# Altium footprint library Connector_USB.PcbLib: 53 footprints (part 1 of 4)
Each footprint in its own frame and in the unit in brackets; x right, y up, seen from the top. Pads: shape width x height; smd on the part's side, far side on the other; paste and mask are expansions set on the pad; w line width, h text height; cw(c..) or ccw(c..) is an arc to the next point about the centre after c.
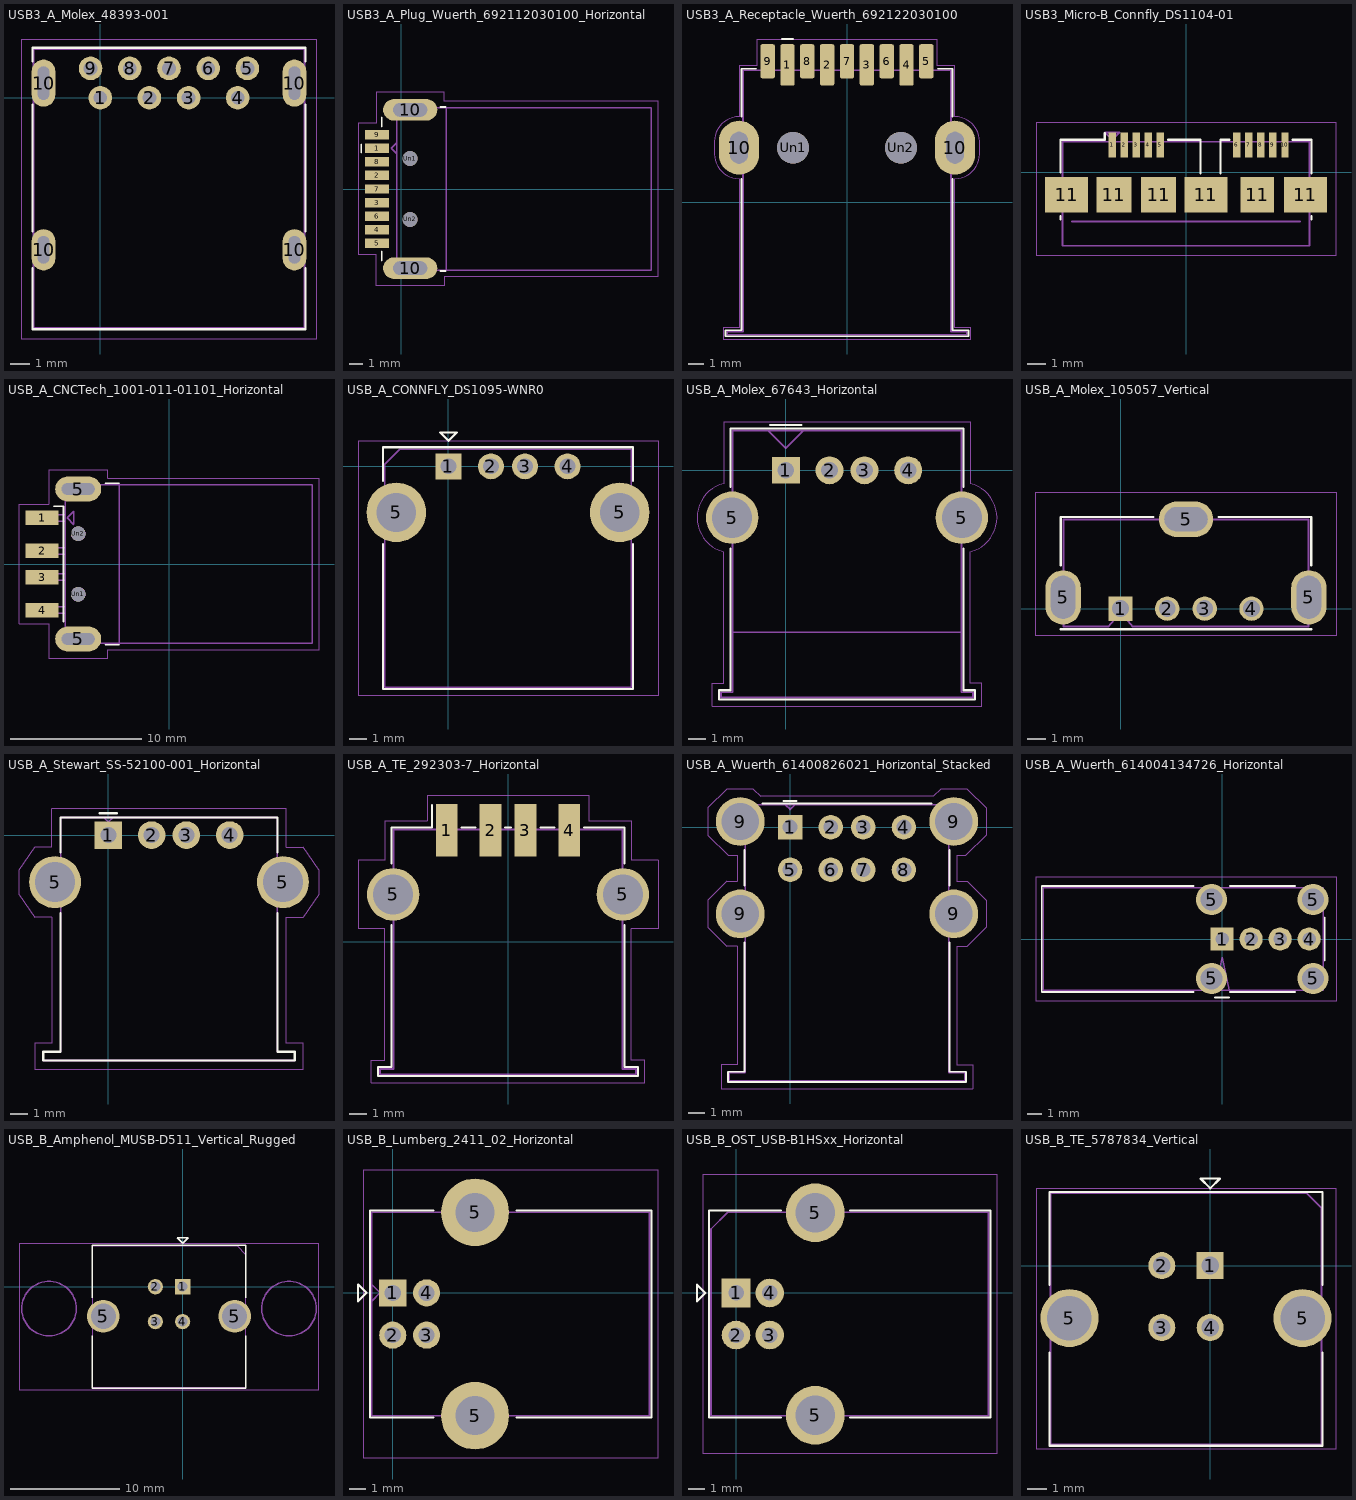
[diagram p0: the footprints below, top view; thin cyan lines are the x and y axes]

## USB3_A_Molex_48393-001 [mm]
pads (13):
  round 1.2 hole 0.7: 1(0,0) 2(2.5,0) 3(4.5,0) 4(7,0) 5(7.5,1.5) 6(5.5,1.5) 7(3.5,1.5) 8(1.5,1.5) 9(-0.5,1.5)
  rrect100% 1.2x2.1 hole 1.4 slot 0.6 at 0 deg: 10(-2.9,-7.75) 10(9.9,-7.75)
  rrect100% 1.2x2.4 hole 1.7 slot 0.6 at 0 deg: 10(-2.9,0.75) 10(9.9,0.75)
F.SilkS:
  lines w0.12: -3.46,-8.7 -3.46,-11.81 10.46,-11.81 10.46,-8.7 ; -3.46,-6.8 -3.46,-0.35 ; -3.46,1.85 -3.46,2.56 10.46,2.56 10.46,1.85 ; 10.46,-6.8 10.46,-0.35
F.CrtYd:
  lines w0.05: -4,-12.3 11,-12.3 11,3 -4,3 -4,-12.3
F.Fab:
  lines w0.1: -3.4,-11.75 10.4,-11.75 10.4,2.5 -3.4,2.5 -3.4,-11.75
  text "'.Designator'" at -0.547,-5.84 h1

## USB3_A_Plug_Wuerth_692112030100_Horizontal [mm]
pads (13):
  rect 1.8x0.7 smd: 1(-1.775,3) 2(-1.775,1) 3(-1.775,-1) 4(-1.775,-3) 5(-1.775,-4) 6(-1.775,-2) 7(-1.775,0) 8(-1.775,2) 9(-1.775,4)
  rrect100% 4x1.6 hole 2.5 slot 1 at 90 deg: 10(0.675,-5.85) 10(0.675,5.85)
  round 1.1 hole 1.1: Un1(0.675,2.25) Un2(0.675,-2.25)
F.SilkS:
  lines w0.12: -2.935,2.7 -2.935,3.3 ; -1.425,-5.29 -1.425,-4.61 ; -1.425,4.61 -1.425,5.29 ; 2.915,-6.06 3.315,-6.06 ; 2.915,6.06 3.315,6.06
Dwgs.User:
  lines w0.1: 3.325,-6 3.325,6
  text "PCB Edge" at 3.165,-2.068 h0.6
F.CrtYd:
  lines w0.05: -3.18,-4.85 -3.18,4.85 -1.83,4.85 -1.83,7.15 3.18,7.15 3.18,6.5 18.98,6.5 18.98,-6.5 3.18,-6.5 3.18,-7.15 -1.83,-7.15 -1.83,-4.85 -3.18,-4.85
F.Fab:
  lines w0.1: -0.325,2.6 -0.725,3 -0.325,3.4 ; -0.325,-6 -0.325,6 18.475,6 18.475,-6 -0.325,-6
  text "'.Designator'" at 5.028,-0.84 h1

## USB3_A_Receptacle_Wuerth_692122030100 [mm]
pads (13):
  rrect25% 0.9x2.6 smd: 1(-3.75,8.67) 2(-1.25,8.67) 3(1.25,8.67) 4(3.75,8.67)
  rrect25% 0.9x2.15 smd: 5(5,8.895) 6(2.5,8.895) 7(0,8.895) 8(-2.5,8.895) 9(-5,8.895)
  rrect100% 2.52x3.4 hole 2 slot 1.12 at 0 deg: 10(-6.8,3.45) 10(6.8,3.45)
  round 2 hole 2: Un1(-3.4,3.45) Un2(3.4,3.45)
F.SilkS:
  lines w0.12: -6.65,1.475 -6.65,-8.05 -7.65,-8.05 -7.65,-8.425 7.65,-8.425 7.65,-8.05 6.65,-8.05 6.65,1.475 ; -6.65,5.425 -6.65,8.425 -5.725,8.425 ; -4.1,10.3 -3.4,10.3 ; 5.725,8.425 6.65,8.425 6.65,5.425
F.CrtYd:
  lines w0.05: -8.35,3.05 -8.35,3.85 cw(c-6.8,3.85) -6.8,5.4 -6.8,8.6 -5.7,8.6 -5.7,10.25 5.7,10.25 5.7,8.6 6.8,8.6 6.8,5.4 cw(c6.8,3.85) 8.35,3.85 8.35,3.05 cw(c6.8,3.05) 6.8,1.5 6.8,-7.9 7.8,-7.9 7.8,-8.6 -7.8,-8.6 -7.8,-7.9 -6.8,-7.9 -6.8,1.5 cw(c-6.8,3.05) -8.35,3.05
F.Fab:
  lines w0.1: -4.15,8.33 -3.75,8.73 -3.35,8.33 ; -7.55,-8.33 -7.55,-8.15 -6.55,-8.15 -6.55,8.33 6.55,8.33 6.55,-8.15 7.55,-8.15 7.55,-8.33 6.55,-8.33 -6.55,-8.33 -7.55,-8.33
  text "'.Designator'" at -4.047,2.06 h1

## USB3_Micro-B_Connfly_DS1104-01 [mm]
pads (16):
  rect 0.4x1.35 smd: 1(-3.975,1.475) 2(-3.325,1.475) 3(-2.675,1.475) 4(-2.025,1.475) 5(-1.375,1.475) 6(2.725,1.475) 7(3.375,1.475) 8(4.025,1.475) 9(4.675,1.475) 10(5.325,1.475)
  rect 2.3x1.9 smd: 11(-6.425,-1.2) 11(1.075,-1.2) 11(6.425,-1.2)
  rect 1.9x1.9 smd: 11(-3.875,-1.2) 11(-1.475,-1.2)
  rect 1.8x1.9 smd: 11(3.825,-1.2)
F.SilkS:
  lines w0.12: -6.75,-2.525 -6.75,-2.35 ; -6.75,0 -6.75,1.75 -4.375,1.75 -4.375,2.1 ; -0.975,1.75 0.775,1.75 0.775,-0.05 ; 1.855,-0.05 1.855,1.75 2.325,1.75 ; 5.725,1.75 6.75,1.75 6.75,-0.05 ; 6.75,-2.525 6.75,-2.35
Dwgs.User:
  text "PCB Edge" at -1.359,-2.957 h0.4
F.CrtYd:
  lines w0.05: -8.07,-4.45 -8.07,2.66 8.07,2.66 8.07,-4.45 -8.07,-4.45
F.Fab:
  lines w0.1: -6.125,-2.65 6.125,-2.65 ; -6.635,-3.95 -6.635,1.65 6.635,1.65 6.635,-3.95 -6.635,-3.95 ; -4.375,2.15 -3.975,1.75 -3.575,2.15 -4.375,2.15
  text "'.Designator'" at -4.047,-0.381 h1

## USB_A_CNCTech_1001-011-01101_Horizontal [mm]
pads (8):
  rect 2.5x1.1 smd: 1(-9.65,3.5) 2(-9.65,1) 3(-9.65,-1) 4(-9.65,-3.5)
  rrect100% 3.5x1.9 hole 0.9 slot 2.5 at 0 deg: 5(-6.9,-5.7) 5(-6.9,5.7)
  round 1.1 hole 1.1: Un1(-6.9,-2.3) Un2(-6.9,2.3)
F.SilkS:
  lines w0.12: -8.775,4.4 -8.02,4.4 -8.02,-4.4 ; -4.85,-6.145 -3.8,-6.145 ; -4.85,6.145 -3.8,6.145
Dwgs.User:
  lines w0.1: -3.8,-6.025 -3.8,6.025
  text "PCB Edge" at -4.06,-2.018 h0.6
F.CrtYd:
  lines w0.05: -11.4,-4.55 -9.15,-4.55 -9.15,-7.15 -4.65,-7.15 -4.65,-6.52 11.4,-6.52 11.4,6.52 -4.65,6.52 -4.65,7.15 -9.15,7.15 -9.15,4.55 -11.4,4.55 -11.4,-4.55
F.Fab:
  circle w0.1: c-6.9,2.3 r0.5
  circle w0.1: c-6.9,-2.3 r0.5
  lines w0.1: -7.9,-3.75 -10.4,-3.75 -10.4,-3.25 -7.9,-3.25 ; -7.9,-1.25 -10.4,-1.25 -10.4,-0.75 -7.9,-0.75 ; -7.9,0.75 -10.4,0.75 -10.4,1.25 -7.9,1.25 ; -7.9,3.25 -10.4,3.25 -10.4,3.75 -7.9,3.75 ; -7.25,3 -7.75,3.5 -7.25,4 -7.25,3.05 ; -7.9,-6.025 10.9,-6.025 10.9,6.025 -7.9,6.025 -7.9,-6.025
  text "'.Designator'" at -5.16,-4.047 h1

## USB_A_CONNFLY_DS1095-WNR0 [mm]
pads (6):
  rect 1.524x1.524 hole 0.92: 1(0,0)
  round 1.524 hole 0.92: 2(2.5,0) 3(4.5,0) 4(7,0)
  round 3.5 hole 2.3: 5(-3.07,-2.71) 5(10.07,-2.71)
F.SilkS:
  lines w0.12: -3.86,-4.56 -3.86,-13.1 10.86,-13.1 10.86,-4.56 ; -3.86,-0.86 -3.86,1.12 10.86,1.12 10.86,-0.86 ; -0.5,2 0.5,2 0,1.5 -0.5,2
F.CrtYd:
  lines w0.05: -5.32,-13.49 -5.32,1.51 12.32,1.51 12.32,-13.49 -5.32,-13.49
F.Fab:
  lines w0.1: -3.75,-12.99 10.75,-12.99 10.75,1.01 -2.87,1.01 -3.75,0.13 -3.75,-12.99
  text "'.Designator'" at -0.547,-5.84 h1

## USB_A_Molex_67643_Horizontal [mm]
pads (6):
  rect 1.6x1.5 hole 0.95: 1(0,0)
  round 1.6 hole 0.95: 2(2.5,0) 3(4.5,0) 4(7,0)
  round 3 hole 2.3: 5(-3.07,-2.71) 5(10.07,-2.71)
F.SilkS:
  lines w0.12: -3.16,-4.47 -3.16,-12.58 -3.81,-12.58 -3.81,-13.1 10.81,-13.1 10.81,-12.58 10.16,-12.58 10.16,-4.47 ; -3.16,-0.95 -3.16,2.38 10.16,2.38 10.16,-0.95 ; -0.9,2.6 0.9,2.6
F.CrtYd:
  lines w0.05: -4.2,-13.49 -4.2,-12.19 -3.55,-12.19 -3.55,-4.66 cw(c-3.07,-2.71) -3.55,-0.76 -3.55,2.77 10.55,2.77 10.55,-0.76 cw(c10.07,-2.71) 10.55,-4.66 10.55,-12.19 11.2,-12.19 11.2,-13.49 -4.2,-13.49
F.Fab:
  lines w0.1: -3.05,-9.27 10.05,-9.27 ; -1,2.27 0,1.27 1,2.27 ; -3.7,-12.99 10.7,-12.99 10.7,-12.69 10.05,-12.69 10.05,2.27 -3.05,2.27 -3.05,-12.69 -3.7,-12.69 -3.7,-12.99
  text "'.Designator'" at -0.547,-4.54 h1

## USB_A_Molex_105057_Vertical [mm]
pads (7):
  rect 1.3x1.3 hole 0.9: 1(0,0)
  round 1.3 hole 0.9: 2(2.5,0) 3(4.5,0) 4(7,0)
  rrect100% 1.9x2.9 hole 2.3 slot 1.3 at 0 deg: 5(-3.07,0.6) 5(10.07,0.6)
  rrect100% 2.9x1.9 hole 2.3 slot 1.3 at 90 deg: 5(3.5,4.78)
F.SilkS:
  lines w0.12: -3.2,-1.1 10.2,-1.1 ; -3.2,2.3 -3.2,4.9 1.75,4.9 ; 5.25,4.9 10.2,4.9 10.2,2.3
F.CrtYd:
  lines w0.05: -4.52,-1.46 11.52,-1.46 11.52,6.23 -4.52,6.23 -4.52,-1.46
F.Fab:
  lines w0.1: -3.05,-0.96 -3.05,4.76 10.05,4.76 10.05,-0.96 0.65,-0.96 0,-0.2 -0.65,-0.96 -3.05,-0.96
  text "'.Designator'" at -0.597,1.31 h1

## USB_A_Stewart_SS-52100-001_Horizontal [mm]
pads (6):
  rect 1.6x1.6 hole 0.92: 1(0,0)
  round 1.6 hole 0.92: 2(2.5,0) 3(4.5,0) 4(7,0)
  round 3 hole 2.3: 5(-3.07,-2.71) 5(10.07,-2.71)
F.SilkS:
  lines w0.12: -2.75,-4.49 -2.75,-12.49 -3.75,-12.49 -3.75,-12.99 10.75,-12.99 10.75,-12.49 9.75,-12.49 9.75,-4.49 ; -2.75,-0.99 -2.75,1.01 9.75,1.01 9.75,-0.99 ; -0.5,1.26 0.5,1.26
F.CrtYd:
  lines w0.05: -5.15,-3.44 -4.25,-4.74 -3.25,-4.74 -3.25,-11.99 -4.25,-11.99 -4.25,-13.49 11.25,-13.49 11.25,-11.99 10.25,-11.99 10.25,-4.74 11.25,-4.74 12.15,-3.44 12.15,-1.99 11.25,-0.69 10.25,-0.69 10.25,1.51 -3.25,1.51 -3.25,-0.69 -4.25,-0.69 -5.15,-1.99 -5.15,-3.44
F.Fab:
  lines w0.1: -0.25,1.01 0,0.76 0.25,1.01 ; -3.75,-12.99 -3.75,-12.49 -2.75,-12.49 -2.75,1.01 9.75,1.01 9.75,-12.49 10.75,-12.49 10.75,-12.99 -3.75,-12.99
  text "'.Designator'" at -0.547,-6.83 h1

## USB_A_TE_292303-7_Horizontal [mm]
pads (6):
  rect 1.25x3 smd: 1(-3.5,6.38) 2(-1,6.38) 3(1,6.38) 4(3.5,6.38)
  round 3 hole 2.3: 5(-6.57,2.7) 5(6.57,2.7)
F.SilkS:
  lines w0.12: -6.66,0.94 -6.66,-7.17 -7.43,-7.17 -7.43,-7.69 7.43,-7.69 7.43,-7.17 6.66,-7.17 6.66,0.94 ; -6.66,4.46 -6.66,6.53 -4.35,6.53 -4.35,7.82 ; -2.67,6.52 -1.85,6.52 ; -0.17,6.52 0.17,6.52 ; 1.85,6.52 2.67,6.52 ; 4.35,6.53 6.66,6.53 6.66,4.46
F.CrtYd:
  lines w0.05: -8.58,0.75 -7.05,0.75 -7.05,-6.78 -7.82,-6.78 -7.82,-8.08 7.82,-8.08 7.82,-6.78 7.05,-6.78 7.05,0.75 8.58,0.75 8.58,4.65 7.05,4.65 7.05,6.92 4.63,6.92 4.63,8.38 -4.63,8.38 -4.63,6.92 -7.05,6.92 -7.05,4.65 -8.58,4.65 -8.58,0.75
F.Fab:
  lines w0.1: -3.8,6.42 -3.8,7.58 -3.2,7.58 -3.2,6.42 ; -1.3,6.42 -1.3,7.58 -0.7,7.58 -0.7,6.42 ; 0.7,6.42 0.7,7.58 1.3,7.58 1.3,6.42 ; 3.2,6.42 3.2,7.58 3.8,7.58 3.8,6.42 ; -7.32,-7.58 -7.32,-7.28 -6.55,-7.28 -6.55,6.42 6.55,6.42 6.55,-7.28 7.32,-7.28 7.32,-7.58 -7.32,-7.58
  text "'.Designator'" at -4.047,0.87 h1

## USB_A_Wuerth_61400826021_Horizontal_Stacked [mm]
pads (12):
  rect 1.5x1.5 hole 0.92: 1(0,0)
  round 1.5 hole 0.92: 2(2.5,0) 3(4.5,0) 4(7,0) 5(0,-2.62) 6(2.5,-2.62) 7(4.5,-2.62) 8(7,-2.62)
  round 3 hole 2.3: 9(-3.07,-5.33) 9(-3.07,0.35) 9(10.07,-5.33) 9(10.07,0.35)
F.SilkS:
  lines w0.12: -2.81,-7.08 -2.81,-15.05 -3.81,-15.05 -3.81,-15.67 10.81,-15.67 10.81,-15.05 9.81,-15.05 9.81,-7.08 ; -2.81,-3.58 -2.81,-1.4 ; -1.69,1.45 8.69,1.45 ; -0.4,1.6 0.4,1.6 ; 9.81,-3.58 9.81,-1.4
F.CrtYd:
  lines w0.05: -5.07,-6.17 -3.91,-7.33 -3.26,-7.33 -3.26,-14.61 -4.25,-14.61 -4.25,-16.11 11.25,-16.11 11.25,-14.61 10.26,-14.61 10.26,-7.33 10.91,-7.33 12.07,-6.17 12.07,-4.49 10.91,-3.33 10.26,-3.33 10.26,-1.74 10.82,-1.74 12.07,-0.49 12.07,1.19 10.91,2.35 9.26,2.35 8.8,1.89 -1.8,1.89 -2.26,2.35 -3.91,2.35 -5.07,1.19 -5.07,-0.49 -3.82,-1.74 -3.26,-1.74 -3.26,-3.33 -3.91,-3.33 -5.07,-4.49 -5.07,-6.17
F.Fab:
  lines w0.1: -3.75,-15.61 10.75,-15.61 10.75,-15.11 9.75,-15.11 9.75,1.39 -2.75,1.39 -2.75,-15.11 -3.75,-15.11 -3.75,-15.61
  lines w0.12: -0.3,1.38 0,1.1 0.3,1.38
  text "'.Designator'" at -0.547,-7.84 h1

## USB_A_Wuerth_614004134726_Horizontal [mm]
pads (8):
  rect 1.6x1.6 hole 0.92: 1(0,0)
  round 1.6 hole 0.92: 2(2,0) 3(4,0) 4(6,0)
  round 2.15 hole 1.5: 5(-0.73,-2.72) 5(-0.73,2.72) 5(6.27,-2.72) 5(6.27,2.72)
F.SilkS:
  lines w0.12: -1.98,-3.65 -12.43,-3.65 -12.43,3.65 -1.98,3.65 ; -0.5,-4.03 0.5,-4.03 ; 0.52,-3.65 5.02,-3.65 ; 0.52,3.65 5.02,3.65 ; 7.07,-1.5 7.07,1.5
F.CrtYd:
  lines w0.05: -12.83,-4.3 -12.83,4.3 7.85,4.3 7.85,-4.3 -12.83,-4.3
F.Fab:
  lines w0.1: -0.5,-3.55 0,-1.25 0.5,-3.55 ; -12.33,-3.55 -12.33,3.55 6.97,3.55 6.97,-3.55 -12.33,-3.55
  text "'.Designator'" at -6.902,-0.84 h1

## USB_B_Amphenol_MUSB-D511_Vertical_Rugged [mm]
pads (6):
  rect 1.4x1.4 hole 0.92: 1(0,0)
  round 1.4 hole 0.92: 2(-2.5,0) 3(-2.5,-3.2) 4(0,-3.2)
  round 3 hole 2.3: 5(-7.27,-2.71) 5(4.77,-2.71)
F.SilkS:
  lines w0.12: -8.3,-4.5 -8.3,-9.3 5.8,-9.3 5.8,-4.5 ; -8.3,-1 -8.3,3.8 5.8,3.8 5.8,-1 ; -0.5,4.5 0,4 0.5,4.5 -0.5,4.5
F.CrtYd:
  lines w0.05: -15,-9.5 -15,4 12.5,4 12.5,-9.5 -15,-9.5
F.Fab:
  circle w0.12: c-12.25,-2 r2.5
  circle w0.12: c9.75,-2 r2.5
  lines w0.1: -8.25,-9.25 -8.25,3.75 5,3.75 5.75,3 5.75,-9.25 -8.25,-9.25
  text "'.Designator'" at -5.247,-7.24 h1

## USB_B_Lumberg_2411_02_Horizontal [mm]
pads (6):
  rect 1.6x1.6 hole 0.95: 1(0,0)
  round 1.6 hole 0.95: 2(0,-2.5) 3(2,-2.5) 4(2,0)
  round 4 hole 2.3: 5(4.86,-7.25) 5(4.86,4.75)
F.SilkS:
  lines w0.12: 2.4,-7.36 -1.35,-7.36 -1.35,4.86 2.4,4.86 ; 7.3,-7.36 15.27,-7.36 15.27,4.86 7.3,4.86 ; -2.05,-0.5 -1.55,0 -2.05,0.5 -2.05,-0.5
F.CrtYd:
  lines w0.05: -1.74,-9.75 15.66,-9.75 15.66,7.25 -1.74,7.25 -1.74,-9.75
F.Fab:
  lines w0.1: -1.24,-0.49 -0.75,0 -1.24,0.49 ; -1.24,-7.25 -1.24,4.75 15.16,4.75 15.16,-7.25 -1.24,-7.25
  text "'.Designator'" at 3.453,-2.09 h1

## USB_B_OST_USB-B1HSxx_Horizontal [mm]
pads (6):
  rect 1.7x1.7 hole 0.92: 1(0,0)
  round 1.7 hole 0.92: 2(0,-2.5) 3(2,-2.5) 4(2,0)
  round 3.5 hole 2.33: 5(4.71,-7.27) 5(4.71,4.77)
F.SilkS:
  lines w0.12: 2.66,-7.41 -1.6,-7.41 -1.6,4.91 2.66,4.91 ; 6.76,-7.41 15.12,-7.41 15.12,4.91 6.76,4.91 ; -2.32,-0.5 -1.82,0 -2.32,0.5 -2.32,-0.5
F.CrtYd:
  lines w0.05: -1.99,-9.52 15.51,-9.52 15.51,7.02 -1.99,7.02 -1.99,-9.52
F.Fab:
  lines w0.1: -1.49,-7.3 15.01,-7.3 15.01,4.8 -0.49,4.8 -1.49,3.8 -1.49,-7.3
  text "'.Designator'" at 2.713,-2.09 h1

## USB_B_TE_5787834_Vertical [mm]
pads (6):
  rect 1.4x1.4 hole 0.92: 1(0,0)
  round 1.4 hole 0.92: 2(-2.5,0) 3(-2.5,-3.2) 4(0,-3.2)
  round 3 hole 2.3: 5(-7.27,-2.71) 5(4.77,-2.71)
F.SilkS:
  lines w0.12: -8.3,-4.5 -8.3,-9.3 5.8,-9.3 5.8,-4.5 ; -8.3,-1 -8.3,3.8 5.8,3.8 5.8,-1 ; -0.5,4.5 0,4 0.5,4.5 -0.5,4.5
F.CrtYd:
  lines w0.05: -9,-9.5 -9,4 6.5,4 6.5,-9.5 -9,-9.5
F.Fab:
  lines w0.1: -8.25,-9.25 5.75,-9.25 5.75,3 5,3.75 -8.25,3.75 -8.25,-9.25
  text "'.Designator'" at -5.247,-7.24 h1